# Altium schematic symbol library Logic.SchLib: 12 symbols
Pins are listed as number, name and electrical type; pins without a type are passive.

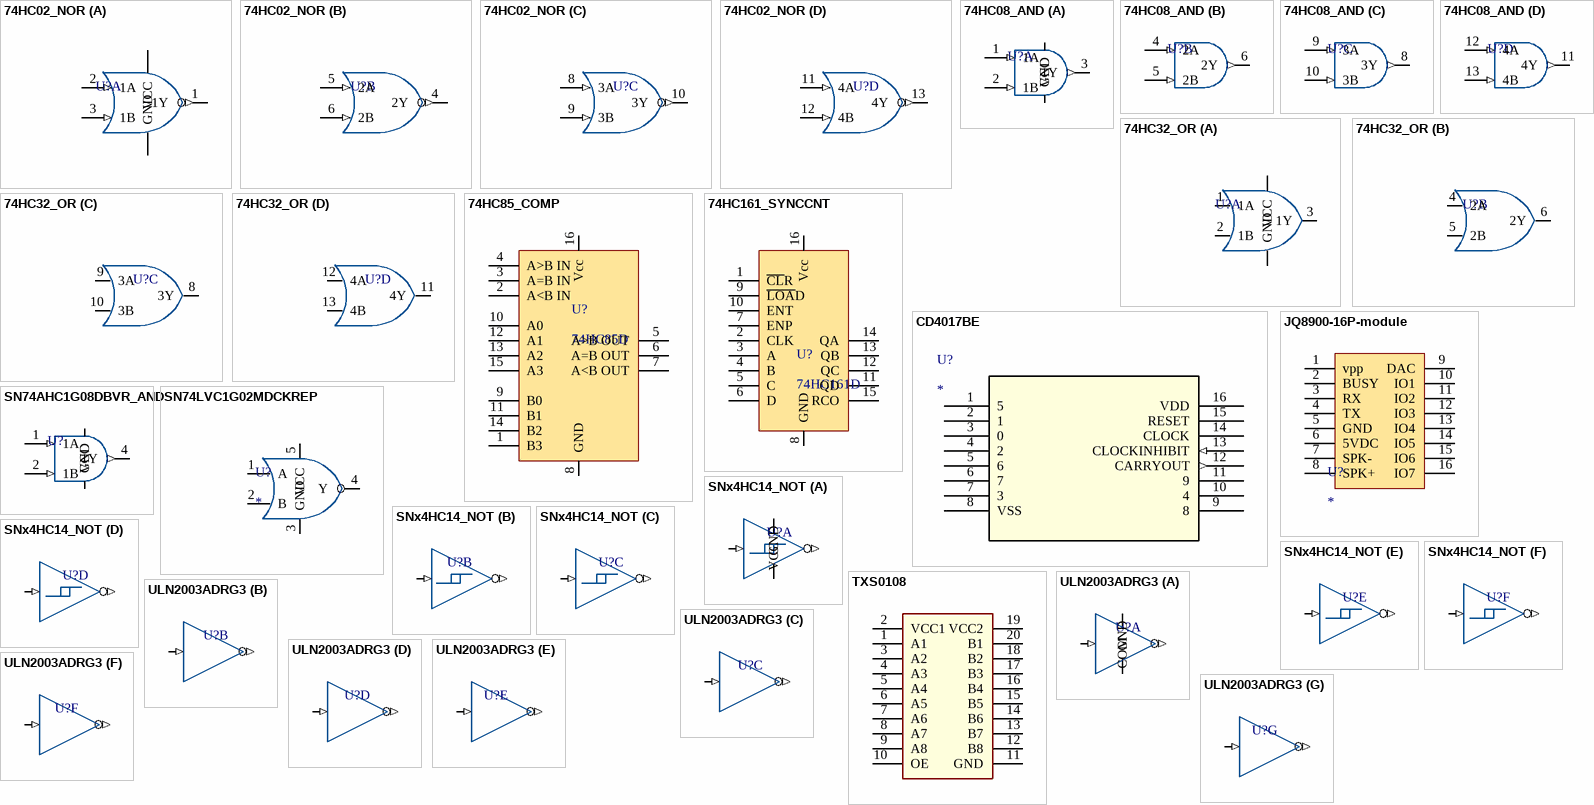
[diagram p0: symbols 74HC02_NOR to ULN2003ADRG3]

## 74HC02_NOR
designator U?, comment SN74HC02D  (value not drawn)
74HC02 Quadruple 2-Input Positive-NOR Gates; Type: SN74HC02D
footprint SOIC127P600X175-14N (SOIC, 14-Leads, Body 8.65x3.90mm, Pitch 1.27mm, IPC Medium Density)
part A pins: 1 1Y (out), 2 1A (in), 3 1B (in), 7 GND (power), 14 VCC (power)
part B pins: 4 2Y (out), 5 2A (in), 6 2B (in)
part C pins: 8 3A (in), 9 3B (in), 10 3Y (out)
part D pins: 11 4A (in), 12 4B (in), 13 4Y (out)

## 74HC08_AND
designator U?, comment SN74HC08D  (value not drawn)
SNx4HC08 Quadruple 2-Input AND Gates; Type: SN74HC08D
footprint SOIC127P600X175-14N (SOIC, 14-Leads, Body 8.65x3.90mm, Pitch 1.27mm, IPC Medium Density)
part A pins: 1 1A (in), 2 1B (in), 3 1Y (out), 7 GND (power), 14 VCC (power)
part B pins: 4 2A (in), 5 2B (in), 6 2Y (out)
part C pins: 8 3Y (out), 9 3A (in), 10 3B (in)
part D pins: 11 4Y (out), 12 4A (in), 13 4B (in)

## 74HC32_OR
designator U?, comment SN74HC32D  (value not drawn)
SNx4HC32 Quadruple 2-Input Positive-OR Gates; Type: SN74HC32D
footprint SOIC127P600X175-14N (SOIC, 14-Leads, Body 8.65x3.90mm, Pitch 1.27mm, IPC Medium Density)
part A pins: 1 1A, 2 1B, 3 1Y, 7 GND (power), 14 VCC (power)
part B pins: 4 2A, 5 2B, 6 2Y
part C pins: 8 3Y, 9 3A, 10 3B
part D pins: 11 4Y, 12 4A, 13 4B

## 74HC85_COMP
designator U?, comment 74HC85D
4 bit comparator; Type: 74HC85D
footprint SOIC127P600X175-16N (SOIC, 16-Leads, Body 9.90x3.90mm, Pitch 1.27mm, IPC Medium Density)
pins: 1 B3, 2 A<B IN, 3 A=B IN, 4 A>B IN, 5 A>B OUT, 6 A=B OUT, 7 A<B OUT, 8 GND, 9 B0, 10 A0, 11 B1, 12 A1, 13 A2, 14 B2, 15 A3, 16 Vcc

## 74HC161_SYNCCNT
designator U?, comment 74HC161D
4 bint Sync cnt; Type: 74HC161D
footprint SOIC127P600X175-16N (SOIC, 16-Leads, Body 9.90x3.90mm, Pitch 1.27mm, IPC Medium Density)
pins: 1 ~{CL}R, 2 CLK, 3 A, 4 B, 5 C, 6 D, 7 ENP, 8 GND, 9 ~{LOA}D, 10 ENT, 11 QD, 12 QC, 13 QB, 14 QA, 15 RCO, 16 Vcc

## CD4017BE
designator U?
No Description Available; Mfr_Name: Texas Instruments; RefDes: RefDes; Type: Type
footprint DIP-16
pins: 1 5, 2 1, 3 0, 4 2, 5 6, 6 7, 7 3, 8 VSS (power), 9 8, 10 4, 11 9, 12 CARRYOUT (out), 13 CLOCKINHIBIT (in), 14 CLOCK, 15 RESET, 16 VDD (power)

## JQ8900-16P-module
designator U?
footprint JQ8900-16P
pins: 1 vpp, 2 BUSY, 3 RX, 4 TX, 5 GND, 6 5VDC, 7 SPK-, 8 SPK+, 9 DAC, 10 IO1, 11 IO2, 12 IO3, 13 IO4, 14 IO5, 15 IO6, 16 IO7

## SN74AHC1G08DBVR_AND
designator U?, comment SN74AHC1G08DBVR  (value not drawn)
Single 2-Input Positive-AND Gate 74AHC1G08_ footprint SOT-23-5; Mfr_Name: Texas Instruments; Copyright: Copyright (C) 2023 Ultra Librarian. All rights reserved.; Manufacturer_Part_Number: SN74AHC1G08DBVR; RefDes: RefDes; Type: DEV
footprint SOT-23-5_DBV5
pins: 1 1A (in), 2 1B (in), 3 GND (power), 4 1Y (out), 5 VCC (power)

## SN74LVC1G02MDCKREP
designator U?
single NOR gate; Manufacturer_Name: I-CORE(中微爱芯); Manufacturer_Part_Number: AIP74LVC1G02GB235.TR; Datasheet Link: https://atta.szlcsc.com/upload/public/pdf/source/20220714/616334D818142F8CE35EDD6D5511127E.pdf
footprint SOT-23-5_DBV5
pins: 1 A, 2 B, 3 GND, 4 Y, 5 VCC

## SNx4HC14_NOT
designator U?, comment SN74HC04D  (value not drawn)
SNx4HC14 Hex Inverters with Schmitt-Trigger Inputs; Type: SN74HC04D
footprint SOIC127P600X175-14N (SOIC, 14-Leads, Body 8.65x3.90mm, Pitch 1.27mm, IPC Medium Density)
part A pins: 1 1A (in), 2 1Y (out), 7 GND (power), 14 VCC (power)
part B pins: 3 2A (in), 4 2Y (out)
part C pins: 5 3A (in), 6 3Y (out)
part D pins: 8 4Y (out), 9 4A (in)
part E pins: 10 5Y (out), 11 5A (in)
part F pins: 12 6Y (out), 13 6A (in)

## TXS0108
designator U??  (value not drawn)
--ƽת--оƬ; Add into BOM: yes; Name: TXS0108; Symbol: TXS0108; Device: TXS0108; Convert to PCB: yes
footprint TSSOP20_N
pins: 1 A1, 2 VCC1, 3 A2, 4 A3, 5 A4, 6 A5, 7 A6, 8 A7, 9 A8, 10 OE, 11 GND, 12 B8, 13 B7, 14 B6, 15 B5, 16 B4, 17 B3, 18 B2, 19 VCC2, 20 B1

## ULN2003ADRG3
designator U?, comment ULN2003ADR_SOIC-16  (value not drawn)
Type: ULN2003ADR_SOIC-16; ComponentLink1Description: buy link; ComponentLink1URL: https://item.szlcsc.com/7989.html
footprint SOIC127P600X175-16N (SOIC, 16-Leads, Body 9.90x3.90mm, Pitch 1.27mm, IPC Medium Density)
part A pins: 1 1B (in), 8 GND (power), 9 COM (power), 16 1C (out)
part B pins: 2 2B (in), 15 2C (out)
part C pins: 3 3B (in), 14 3C (out)
part D pins: 4 4B (in), 13 4C (out)
part E pins: 5 5B (in), 12 5C (out)
part F pins: 6 6B (in), 11 6C (out)
part G pins: 7 7B (in), 10 7C (out)